# EAGLE library part GROVE-CONNECTOR-SMD (library Connector)
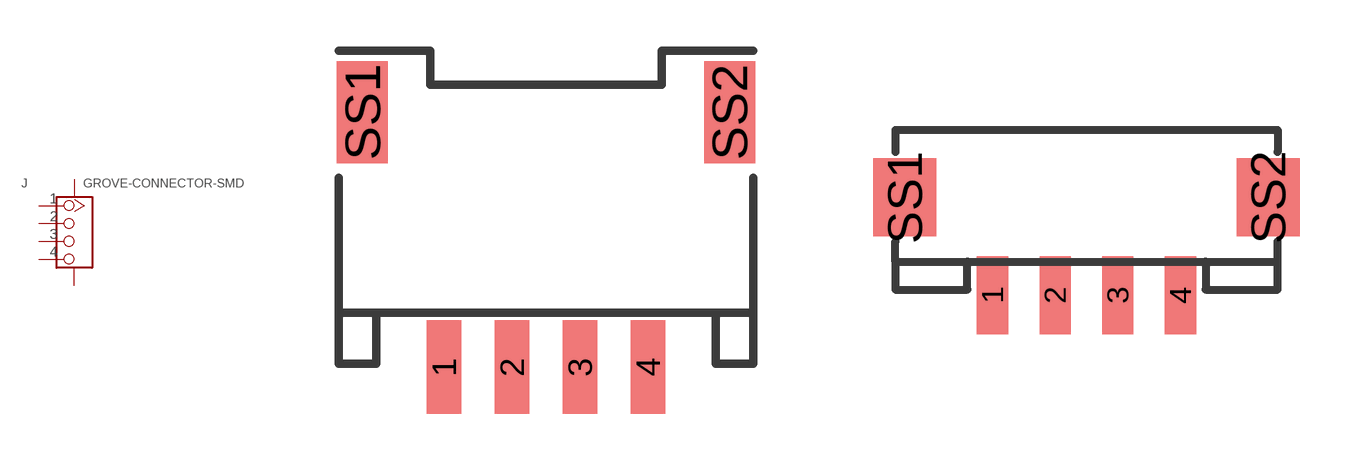
[diagram p19: symbol with the pads of 4P-SMD-2.0-90D; footprints 4P-SMD-2.0-90D, 4P-SMD-2.0]

Designator prefix J

## GROVE-CONNECTOR-SMD320110032  [4P-SMD-2.0-90D]
1  1
2  2
3  3
4  4
SS1  SS1
SS2  SS2

## GROVE-CONNECTOR-SMD320110030  [4P-SMD-2.0]
Pads as for 4P-SMD-2.0-90D

## Footprint 4P-SMD-2.0-90D (pad centres in mm)
smd 1.01 x 2.74: 1 -3,-0.1; 2 -1,-0.1; 3 1,-0.1; 4 3,-0.1
smd 1.5 x 3: SS1 -5.4,7.4; SS2 5.4,7.4

## Footprint 4P-SMD-2.0 (pad centres in mm)
smd 1 x 2.5: 1 -3,0; 2 -1,0; 3 1,0; 4 3,0
smd 2 x 2.5: SS1 -5.8,3.123; SS2 5.8,3.123